# Altium schematic symbol library OPA4197ID.SchLib: 1 symbol
Pins are listed as number, name and electrical type; pins without a type are passive.

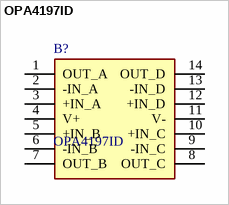
[diagram p0: symbol OPA4197ID]

## OPA4197ID
designator B?
36-V, Precision, Rail-to-Rail Input Output, Low Offset Voltage Op Amp; Manufacturer_Name: Texas Instruments; Geometry.Height: 1.75mm; Mouser Part Number: 595-OPA4197ID; Mouser Price/Stock: https://www.mouser.co.uk/ProductDetail/Texas-Instruments/OPA4197ID?qs=LuYMPh7GGMRrQsevs5FGag%3D%3D; Manufacturer_Part_Number: OPA4197ID; Datasheet Link: http://www.ti.com/lit/gpn/OPA4197
footprint SOIC127P600X175-14N
pins: 1 OUT_A, 2 -IN_A, 3 +IN_A, 4 V+, 5 +IN_B, 6 -IN_B, 7 OUT_B, 8 OUT_C, 9 -IN_C, 10 +IN_C, 11 V-, 12 +IN_D, 13 -IN_D, 14 OUT_D